# EAGLE library part 444RD21025816 (library Wurth_Elektronik_Electromechanic_Switch_rev15d)
WS-TLS 6,8*4,5mm Tact Switch with integrated LED, SMD version, 6 pins
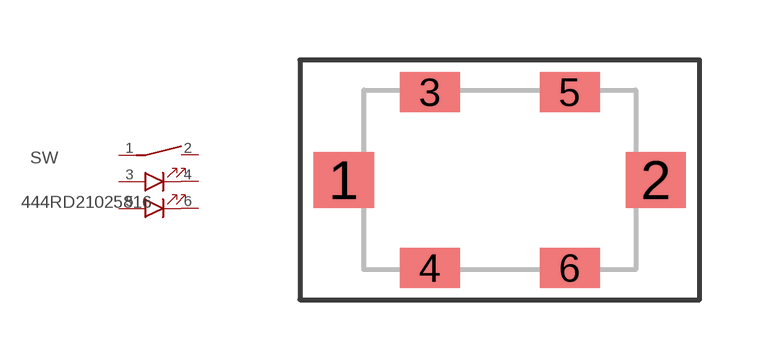
[diagram p171: symbol with the pads of 444RD21025816; footprint 444RD21025816]

Designator prefix SW

## 444RD21025816  [444RD21025816]
1  1  pas
2  2  pas
3  LED(+)  pas
4  LED(-)  pas
5  LED(+)  pas
6  LED(-)  pas

## Footprint 444RD21025816 (pad centres in mm)
WS-TLS 6,8*4,5mm Tact Switch with integrated LED, SMD version, 6 pins
smd 1.5 x 1.4: 1 -3.9,0; 2 3.9,0
smd 1.5 x 1: 3 -1.75,2.2; 4 -1.75,-2.2; 5 1.75,2.2; 6 1.75,-2.2